# EAGLE library part C93432 (library Relay)
RELAY TELECOM DPDT 2A 12VDC Manufacturer's datasheet <https://www.te.com/commerce/DocumentDelivery/DDEController?Action=srchrtrv&DocNm=108-98006&DocType=SS&DocLang=EN>
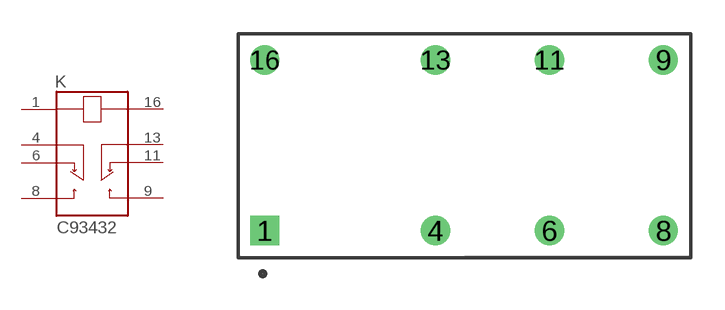
[diagram p10: symbol with the pads of C93432; footprint C93432]

Designator prefix K

## C93432 (CREATED_BY: PCBLayout.com; DIGIKEY_PARTNO: PB1642-ND; MANUFACTURER: TE Connectivity Potter & Brumfield Relays; MPN: C93432)  [C93432]
1  1  pas
4  4  pas
6  6  pas
8  8  pas
9  9  pas
11  11  pas
13  13  pas
16  16  pas

## Footprint C93432 (pad centres in mm)
drill 0.8 square: 1 -10.16,-3.81
drill 0.8: 4 -2.54,-3.81; 6 2.54,-3.81; 8 7.62,-3.81; 9 7.62,3.81; 11 2.54,3.81; 13 -2.54,3.81; 16 -10.16,3.81